# EAGLE library part DB-15MP (library gost_con_subd)
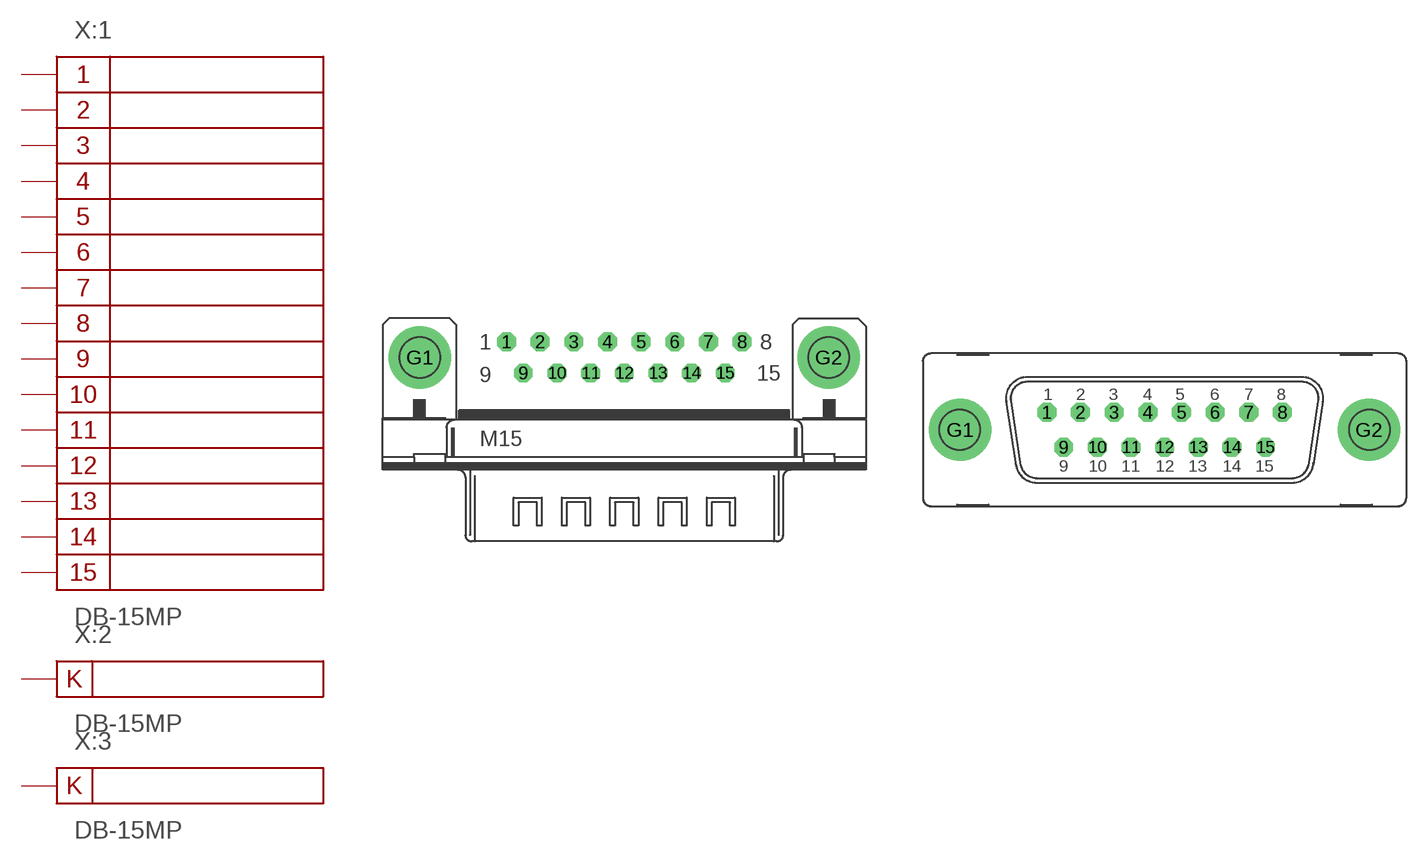
[diagram p11: symbol with the pads of M15HP; footprints M15HP, M15VP]

Designator prefix X; gates :1=15PIN :2=1PIN :3=1PIN

## DB-15MPH  [M15HP]
1  :1:1
2  :1:2
3  :1:3
4  :1:4
5  :1:5
6  :1:6
7  :1:7
8  :1:8
9  :1:9
10  :1:10
11  :1:11
12  :1:12
13  :1:13
14  :1:14
15  :1:15
G1  :2:1
G2  :3:1

## DB-15MPV  [M15VP]
Pads as for M15HP

## Footprint M15HP (pad centres in mm)
SUB-D
drill 1.016 octagon: 1 -9.601,1.27; 2 -6.858,1.27; 3 -4.115,1.27; 4 -1.372,1.27; 5 1.372,1.27; 6 4.115,1.27; 7 6.858,1.27; 8 9.601,1.27; 9 -8.23,-1.27; 10 -5.486,-1.27; 11 -2.743,-1.27; 12 0,-1.27; 13 2.743,-1.27; 14 5.486,-1.27; 15 8.23,-1.27
drill 3.302 pad 5.08: G1 -16.662,0; G2 16.662,0

## Footprint M15VP (pad centres in mm)
SUB-D
drill 1.016 octagon: 1 -9.601,1.422; 2 -6.858,1.422; 3 -4.115,1.422; 4 -1.372,1.422; 5 1.372,1.422; 6 4.115,1.422; 7 6.858,1.422; 8 9.601,1.422; 9 -8.23,-1.422; 10 -5.486,-1.422; 11 -2.743,-1.422; 12 0,-1.422; 13 2.743,-1.422; 14 5.486,-1.422; 15 8.23,-1.422
drill 3.302 pad 5.08: G1 -16.662,0; G2 16.662,0